# EAGLE library part 39-30-?24?_S (library con-molex-mini-fit)
HEADER
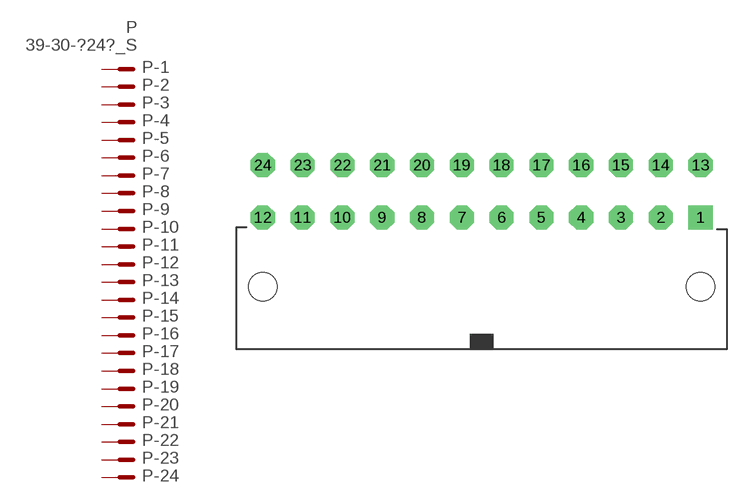
[diagram p19: symbol with the pads of 39-30-?24?; footprint 39-30-?24?]

Designator prefix P; gates -1=P-NV -2=P-N -3=P-N -4=P-N -5=P-N -6=P-N -7=P-N -8=P-N -9=P-N -10=P-N -11=P-N -12=P-N -13=P-N -14=P-N -15=P-N -16=P-N -17=P-N -18=P-N -19=P-N -20=P-N -21=P-N -22=P-N -23=P-N -24=P-N

## 39-30-24_S  [39-30-?24?]
1  -1:P  pas
2  -2:P  pas
3  -3:P  pas
4  -4:P  pas
5  -5:P  pas
6  -6:P  pas
7  -7:P  pas
8  -8:P  pas
9  -9:P  pas
10  -10:P  pas
11  -11:P  pas
12  -12:P  pas
13  -13:P  pas
14  -14:P  pas
15  -15:P  pas
16  -16:P  pas
17  -17:P  pas
18  -18:P  pas
19  -19:P  pas
20  -20:P  pas
21  -21:P  pas
22  -22:P  pas
23  -23:P  pas
24  -24:P  pas

## Footprint 39-30-?24? (pad centres in mm)
HEADER
drill 1.422 pad 2.54 square: 1 23.05,0
drill 1.422 pad 2.54 octagon: 2 18.86,0; 3 14.668,0; 4 10.477,0; 5 6.287,0; 6 2.095,0; 7 -2.095,0; 8 -6.287,0; 9 -10.477,0; 10 -14.668,0; 11 -18.86,0; 12 -23.05,0; 13 23.05,5.512; 14 18.86,5.512; 15 14.668,5.512; 16 10.477,5.512; 17 6.287,5.512; 18 2.095,5.512; 19 -2.095,5.512; 20 -6.287,5.512; 21 -10.477,5.512; 22 -14.668,5.512; 23 -18.86,5.512; 24 -23.05,5.512
hole 3 at -23.05,-7.3
hole 3 at 23.05,-7.3